# EAGLE library part AD9288 (library LibABL)
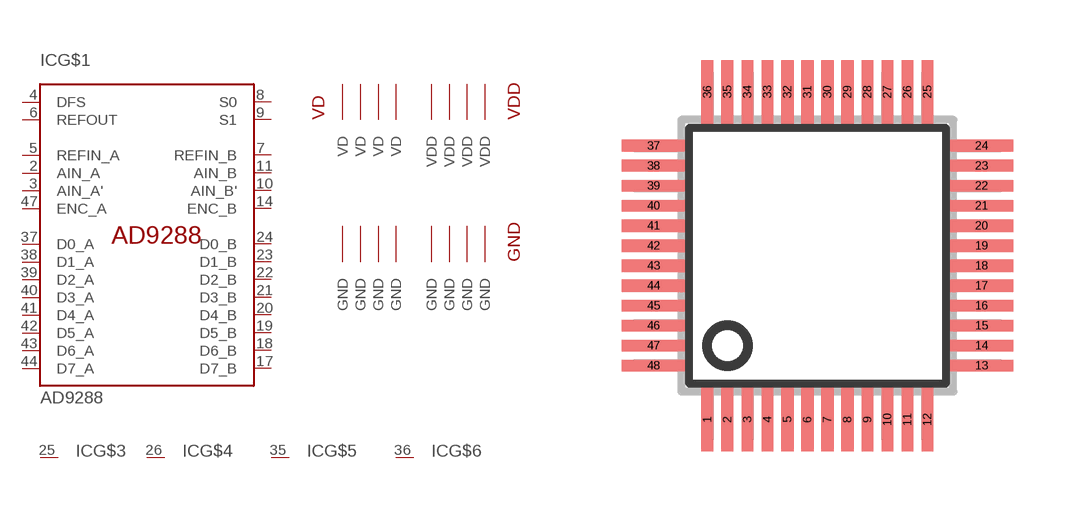
[diagram p2: symbol with the pads of SQFP-S-7X7-48; footprint SQFP-S-7X7-48]

Designator prefix IC; gates G$1=AD9288 G$2=AD9288_POWER G$3=NC G$4=NC G$5=NC G$6=NC

## AD9288  [SQFP-S-7X7-48]
1  G$2:GND  pwr
2  G$1:AIN_A  in
3  G$1:AIN_A'  in
4  G$1:DFS  in
5  G$1:REFIN_A  in
6  G$1:REFOUT  out
7  G$1:REFIN_B  in
8  G$1:S0  in
9  G$1:S1  in
10  G$1:AIN_B'  in
11  G$1:AIN_B  in
12  G$2:GND  pwr
13  G$2:VD  pwr
14  G$1:ENC_B  in
15  G$2:VDD  pwr
16  G$2:GND  pwr
17  G$1:D7_B  out
18  G$1:D6_B  out
19  G$1:D5_B  out
20  G$1:D4_B  out
21  G$1:D3_B  out
22  G$1:D2_B  out
23  G$1:D1_B  out
24  G$1:D0_B  out
25  G$3:P$1  nc
26  G$4:P$1  nc
27  G$2:GND  pwr
28  G$2:VDD  pwr
29  G$2:GND  pwr
30  G$2:VD  pwr
31  G$2:VD  pwr
32  G$2:GND  pwr
33  G$2:VDD  pwr
34  G$2:GND  pwr
35  G$5:P$1  nc
36  G$6:P$1  nc
37  G$1:D0_A  out
38  G$1:D1_A  out
39  G$1:D2_A  out
40  G$1:D3_A  out
41  G$1:D4_A  out
42  G$1:D5_A  out
43  G$1:D6_A  out
44  G$1:D7_A  out
45  G$2:GND  pwr
46  G$2:VDD  pwr
47  G$1:ENC_A  in
48  G$2:VD  pwr

## Footprint SQFP-S-7X7-48 (pad centres in mm)
QFP48 shrink quad flat pack, square
smd 0.3 x 1.6: 1 -2.75,-4.1; 2 -2.25,-4.1; 3 -1.75,-4.1; 4 -1.25,-4.1; 5 -0.75,-4.1; 6 -0.25,-4.1; 7 0.25,-4.1; 8 0.75,-4.1; 9 1.25,-4.1; 10 1.75,-4.1; 11 2.25,-4.1; 12 2.75,-4.1; 25 2.75,4.1; 26 2.25,4.1; 27 1.75,4.1; 28 1.25,4.1; 29 0.75,4.1; 30 0.25,4.1; 31 -0.25,4.1; 32 -0.75,4.1; 33 -1.25,4.1; 34 -1.75,4.1; 35 -2.25,4.1; 36 -2.75,4.1
smd 1.6 x 0.3: 13 4.1,-2.75; 14 4.1,-2.25; 15 4.1,-1.75; 16 4.1,-1.25; 17 4.1,-0.75; 18 4.1,-0.25; 19 4.1,0.25; 20 4.1,0.75; 21 4.1,1.25; 22 4.1,1.75; 23 4.1,2.25; 24 4.1,2.75; 37 -4.1,2.75; 38 -4.1,2.25; 39 -4.1,1.75; 40 -4.1,1.25; 41 -4.1,0.75; 42 -4.1,0.25; 43 -4.1,-0.25; 44 -4.1,-0.75; 45 -4.1,-1.25; 46 -4.1,-1.75; 47 -4.1,-2.25; 48 -4.1,-2.75